# EAGLE library part CFHEAD (library decawave)
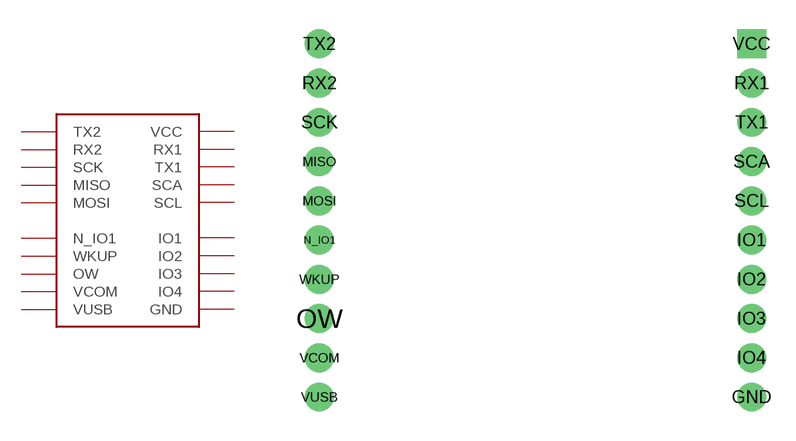
[diagram p2: symbol with the pads of CFHEADPAC; footprint CFHEADPAC]

Designator prefix -

## CFHEAD  [CFHEADPAC]
GND  GND
IO1  IO1
IO2  IO2
IO3  IO3
IO4  IO4
MISO  MISO
MOSI  MOSI
N_IO1  N_IO1
OW  OW
RX1  RX1
RX2  RX2
SCA  SCA
SCK  SCK
SCL  SCL
TX1  TX1
TX2  TX2
VCC  VCC
VCOM  VCOM
VUSB  VUSB
WKUP  WKUP

## Footprint CFHEADPAC (pad centres in mm)
drill 0.965 pad 1.414: GND 11,-9; IO1 11,-1; IO2 11,-3; IO3 11,-5; IO4 11,-7; MISO -11,3; MOSI -11,1; N_IO1 -11,-1; OW -11,-5; RX1 11,7; RX2 -11,7; SCA 11,3; SCK -11,5; SCL 11,1; TX1 11,5; TX2 -11,9; VCOM -11,-7; VUSB -11,-9; WKUP -11,-3
drill 0.965 pad 1.414 square: VCC 11,9